# EAGLE library part DUALPOT (library aaronpots)
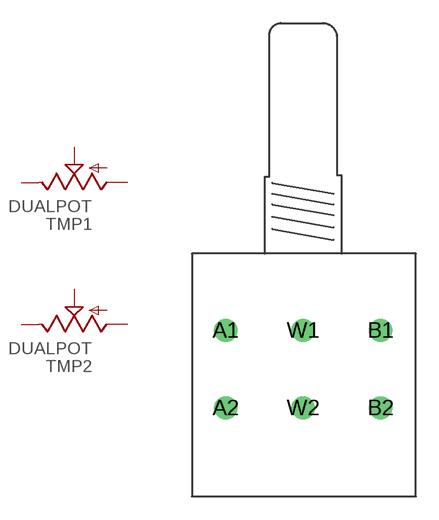
[diagram p1: symbol with the pads of DUALPOT2MIL; footprint DUALPOT2MIL]

Designator prefix TM; gates P2=POT P1=POT

## DUALPOT  [DUALPOT2MIL]
A1  P1:A  pas
A2  P2:A  pas
B1  P1:E  pas
B2  P2:E  pas
W1  P1:S  pas
W2  P2:S  pas

## Footprint DUALPOT2MIL (pad centres in mm)
drill 1: A1 -2.5,-5; A2 -2.5,-10.04; B1 7.58,-5; B2 7.58,-10.04; W1 2.54,-5; W2 2.54,-10.04